# EAGLE library part 750370058 (library Midcom Inc - EAGLE Lib V2-0)
Package Style: EP7 Mounting: SMD Pins: 8 pins Bobbin: 070-5422 Best pinouts for production vary per application. Please contact Wurth Electronics Midcom, Inc. for assistance with your custom design. Website: Wurth Electronics Midcom <http://www.we-online.com/midcom> Contact us Wurth Electronics Midcom, Inc. 121 Airport Dr. Watertown, SD 57201 Phone: (605) 886-4385 Fax: (605) 886-4486 E-Mail: midcom@we-online.com
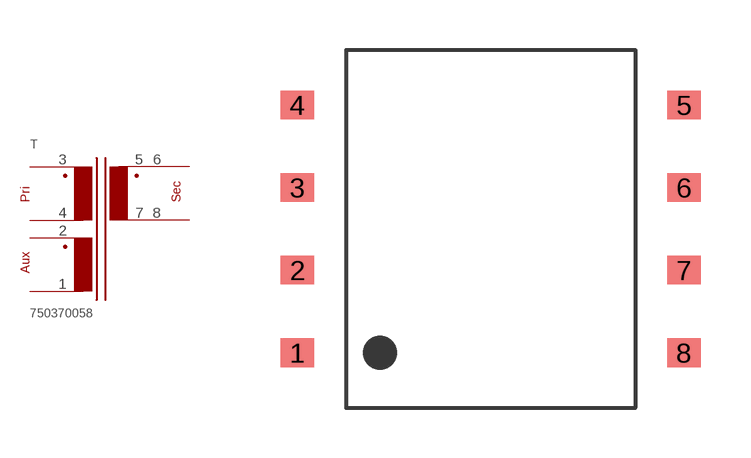
[diagram p393: symbol with the pads of EP7_SMD_H_8PIN_(5422); footprint EP7_SMD_H_8PIN_(5422)]

Designator prefix T

## 750370058  [EP7_SMD_H_8PIN_(5422)]
1  1  pas
2  2  pas
3  3  pas
4  4  pas
5  5  pas
6  6  pas
7  7  pas
8  8  pas

## Footprint EP7_SMD_H_8PIN_(5422) (pad centres in mm)
Package Style: EP7 Mounting: SMD Pins: 8 Bobbin: 070-5422
smd 1.016 x 0.864: 1 -5.829,-3.734; 2 -5.829,-1.245; 3 -5.829,1.245; 4 -5.829,3.734; 5 5.829,3.734; 6 5.829,1.245; 7 5.829,-1.245; 8 5.829,-3.734